# EAGLE library part 5747846-4 (library DB Connectors)
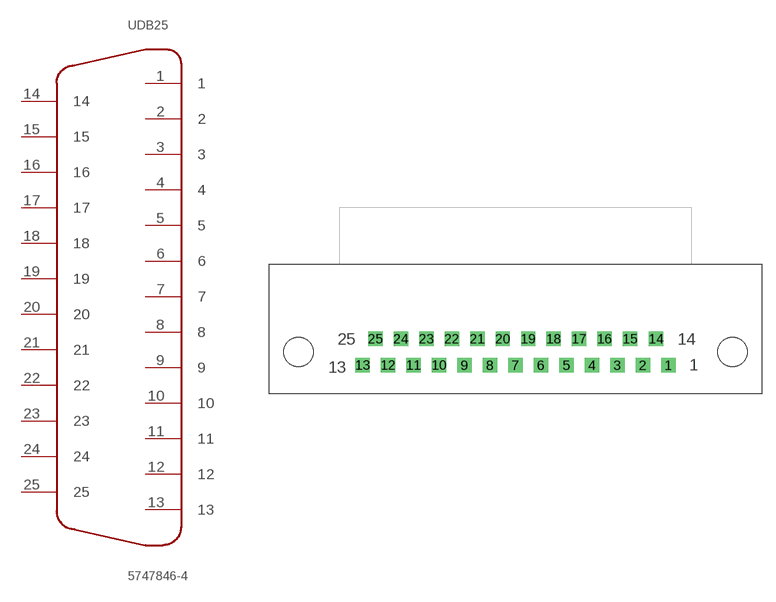
[diagram p0: symbol with the pads of 5747846-4; footprint 5747846-4]

Designator prefix -; gates DB25=DB-25BODY G$2=1 G$3=2 G$4=3 G$5=4 G$6=5 G$7=6 G$8=7 G$9=8 G$10=9 G$11=10 G$12=11 G$13=12 G$14=13 G$15=14 G$16=15 G$17=16 G$18=17 G$19=18 G$20=19 G$21=20 G$22=21 G$23=22 G$24=23 G$25=24 G$26=25

## 5747846-4  [5747846-4]
1  G$2:1
2  G$3:2
3  G$4:3
4  G$5:4
5  G$6:5
6  G$7:6
7  G$8:7
8  G$9:8
9  G$10:9
10  G$11:10
11  G$12:11
12  G$13:12
13  G$14:13
14  G$15:14
15  G$16:15
16  G$17:16
17  G$18:17
18  G$19:18
19  G$20:19
20  G$21:20
21  G$22:21
22  G$23:22
23  G$24:23
24  G$25:24
25  G$26:25

## Footprint 5747846-4 (pad centres in mm)
drill 1.041 square: 1 16.561,-1.422; 2 13.801,-1.422; 3 11.041,-1.422; 4 8.28,-1.422; 5 5.52,-1.422; 6 2.76,-1.422; 7 0,-1.422; 8 -2.76,-1.422; 9 -5.52,-1.422; 10 -8.28,-1.422; 11 -11.041,-1.422; 12 -13.801,-1.422; 13 -16.561,-1.422; 14 15.24,1.422; 15 12.417,1.422; 16 9.658,1.422; 17 6.898,1.422; 18 4.139,1.422; 19 1.38,1.422; 20 -1.38,1.422; 21 -4.139,1.422; 22 -6.898,1.422; 23 -9.658,1.422; 24 -12.417,1.422; 25 -15.177,1.422
hole 3.175 at -23.52,0
hole 3.175 at 23.52,0